# Altium footprint library Library v1.9.PcbLib: 90 footprints (part 1 of 6)
Each footprint in its own frame and in the unit in brackets; x right, y up, seen from the top. Pads: shape width x height; smd on the part's side, far side on the other; paste and mask are expansions set on the pad; w line width, h text height; cw(c..) or ccw(c..) is an arc to the next point about the centre after c.
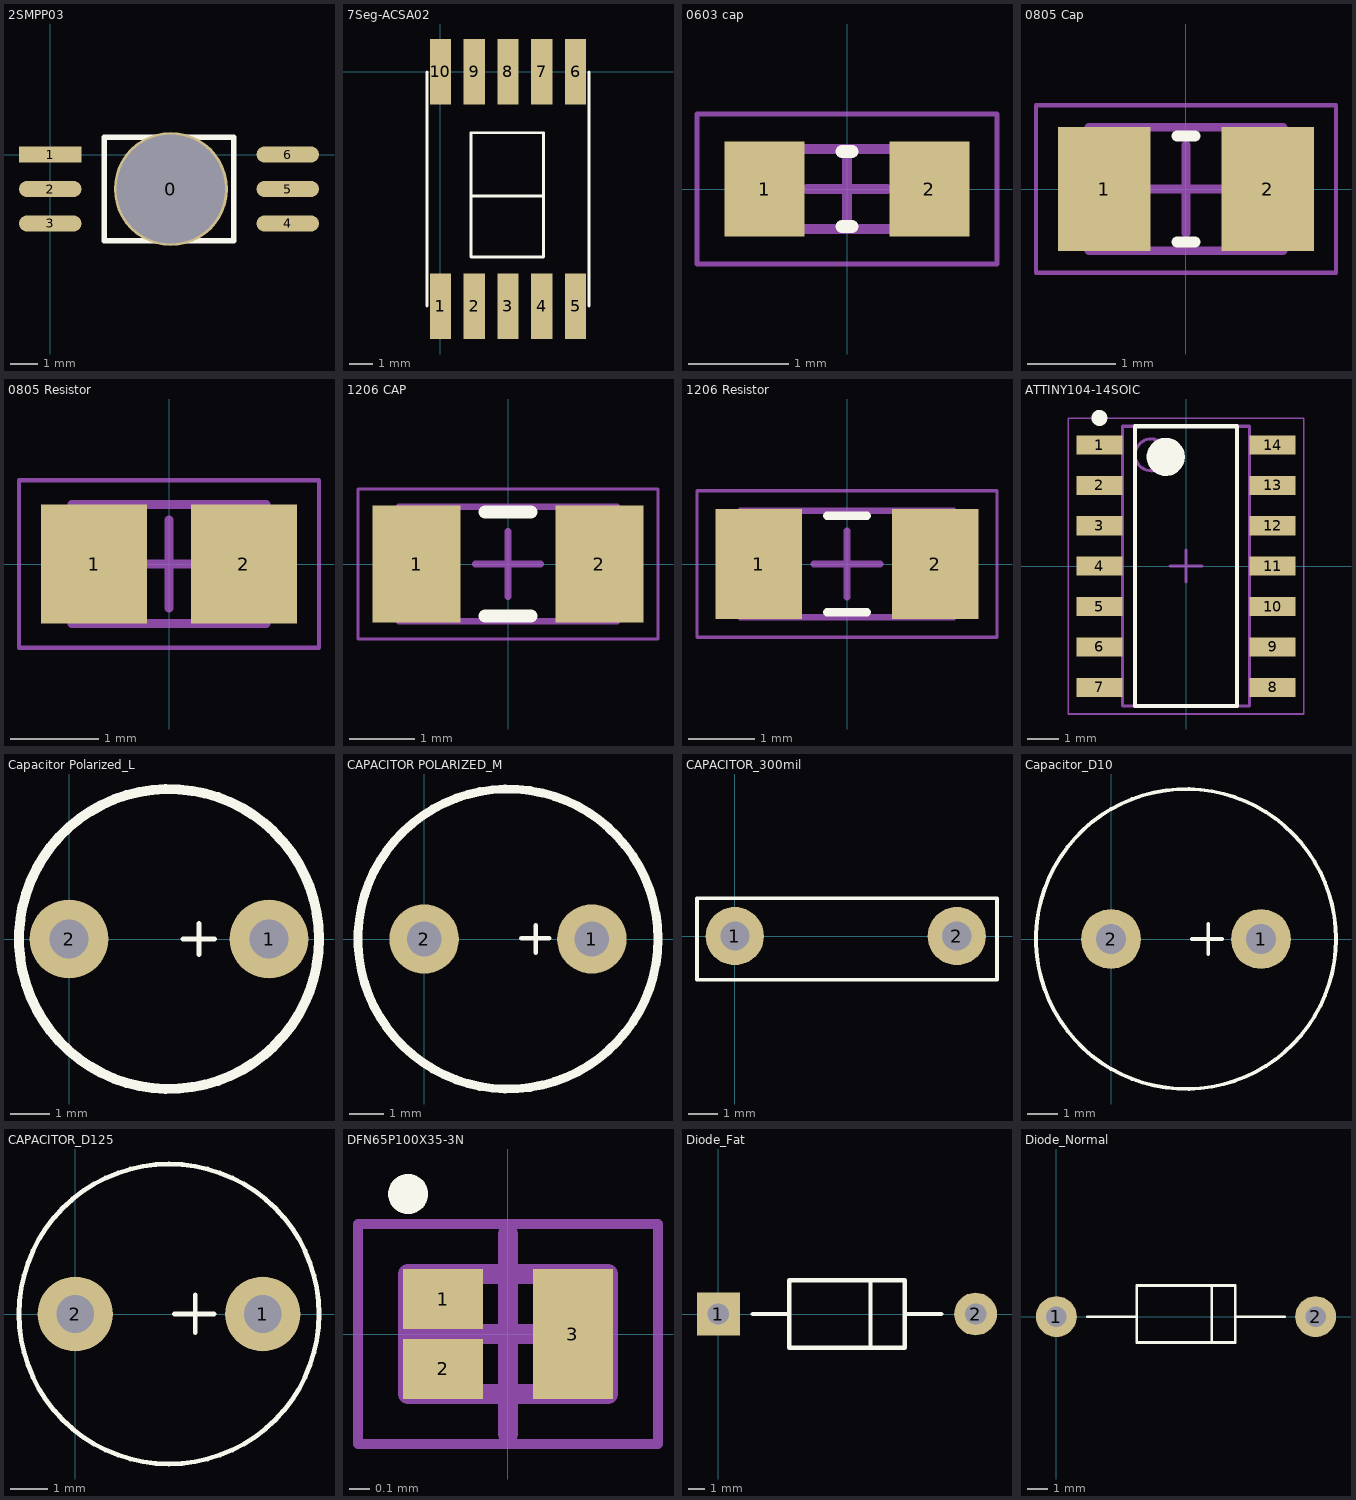
[diagram p0: the footprints below, top view; thin cyan lines are the x and y axes]

## 2SMPP03 [mm]
pads (7):
  round 4.2 hole 4: 0(4.445,-1.27)
  rect 2.3x0.6 smd: 1(0,0)
  oval 2.3x0.6 smd: 2(0,-1.27) 3(0,-2.54) 4(8.75,-2.54) 5(8.75,-1.27) 6(8.75,0)
Top Overlay:
  lines w0.2: 1.985,-3.175 6.765,-3.175 6.765,0.635 4.693,0.635 cw(c4.375,0.635) 4.058,0.635 1.985,0.635 1.985,-3.175

## 7Seg-ACSA02 [mm]
pads (10):
  rect 0.9x2.8 smd: 1(0,-10) 2(1.44,-10) 3(2.88,-10) 4(4.32,-10) 5(5.76,-10) 6(5.76,0) 7(4.32,0) 8(2.88,0) 9(1.44,0) 10(0,0)
Top Overlay:
  lines w0.127: -0.57,-10 -0.57,0 ; 1.3,-5.3 4.4,-5.3 ; 1.3,-5.25 1.3,-2.6 ; 6.33,-10 6.33,0 ; 1.3,-2.6 1.3,-7.9 4.4,-7.9 4.4,-2.6 1.3,-2.6
3D body "ACSX02-41.STEP": height 3, standoff -0.05, extent -0.554,-10.029 6.346,-0.029

## 0603 cap [mm]
height 0.5
pads (2):
  rect 0.8x0.95 smd: 1(-0.825,0) 2(0.825,0)
Top Overlay:
  lines w0.127: -0.05,-0.375 0.05,-0.375 ; -0.05,0.375 0.05,0.375
Mechanical 13:
  lines w0.1: -0.8,-0.4 0.8,-0.4 0.8,0.4 -0.8,0.4 -0.8,-0.4
Mechanical 15:
  lines w0.05: -1.5,-0.75 1.5,-0.75 1.5,0.75 -1.5,0.75 -1.5,-0.75
  lines w0.1: -0.4,0 0.4,0 ; 0,-0.4 0,0.4
3D body "0603 cap.step": height 0.5, standoff 0, extent -0.8,-0.4 0.8,0.4

## 0805 Cap [mm]
height 0.8
pads (2):
  rect 1.05x1.4 smd: 1(-0.925,0) 2(0.925,0)
Top Overlay:
  lines w0.127: -0.1,-0.6 0.1,-0.6 ; -0.1,0.6 0.1,0.6
Mechanical 13:
  lines w0.1: -1.1,-0.7 1.1,-0.7 1.1,0.7 -1.1,0.7 -1.1,-0.7
Mechanical 15:
  lines w0.05: -1.7,-0.95 1.7,-0.95 1.7,0.95 -1.7,0.95 -1.7,-0.95
  lines w0.1: -0.5,0 0.5,0 ; 0,-0.5 0,0.5
3D body "0805 Cap.step": height 0.8, standoff 0, extent -1.1,-0.7 1.1,0.7

## 0805 Resistor [mm] "Chip Resistor, 2-Leads, Body 2.00x1.25mm, IPC Medium Density"
height 0.6
pads (2):
  rect 1.2x1.35 smd: 1(-0.85,0) 2(0.85,0)
Mechanical 13:
  lines w0.1: -1.1,-0.675 1.1,-0.675 1.1,0.675 -1.1,0.675 -1.1,-0.675
Mechanical 15:
  lines w0.05: -1.7,-0.95 1.7,-0.95 1.7,0.95 -1.7,0.95 -1.7,-0.95
  lines w0.1: -0.5,0 0.5,0 ; 0,-0.5 0,0.5
3D body: height 0.6, standoff 0, extent 0.7,-0.675 1.1,0.675
3D body: height 0.6, standoff 0, extent -1.1,-0.675 -0.7,0.675
3D body: height 0.6, standoff 0, extent -0.7,-0.675 0.7,0.675

## 1206 CAP [mm]
height 0.9
pads (2):
  rect 1.35x1.8 smd: 1(-1.4,0) 2(1.4,0)
Top Overlay:
  lines w0.2: -0.35,-0.8 0.35,-0.8 ; -0.35,0.8 0.35,0.8
Mechanical 13:
  lines w0.1: -1.675,-0.875 1.675,-0.875 1.675,0.875 -1.675,0.875 -1.675,-0.875
Mechanical 15:
  lines w0.05: -2.3,-1.15 2.3,-1.15 2.3,1.15 -2.3,1.15 -2.3,-1.15
  lines w0.1: -0.5,0 0.5,0 ; 0,-0.5 0,0.5
3D body "1206 CAP.step": height 0.9, standoff 0, extent -1.675,-0.875 1.675,0.875

## 1206 Resistor [mm]
height 0.5
pads (2):
  rect 1.3x1.65 smd: 1(-1.325,0) 2(1.325,0)
Top Overlay:
  lines w0.127: -0.3,-0.725 0.3,-0.725 ; -0.3,0.725 0.3,0.725
Mechanical 13:
  lines w0.1: -1.6,-0.8 -1.6,0.8 1.6,0.8 1.6,-0.8 -1.6,-0.8
Mechanical 15:
  lines w0.05: -2.25,-1.1 -2.25,1.1 2.25,1.1 2.25,-1.1 -2.25,-1.1
  lines w0.1: -0.5,0 0.5,0 ; 0,-0.5 0,0.5
3D body: height 0.5, standoff 0, extent -0.7,-0.8 0.7,0.8
3D body: height 0.5, standoff 0, extent -1.6,-0.8 -0.7,0.8
3D body: height 0.5, standoff 0, extent 0.7,-0.8 1.6,0.8

## ATTINY104-14SOIC [mm]
height 1.75
pads (14):
  rect 1.45x0.6 smd: 1(-2.725,3.81) 2(-2.725,2.54) 3(-2.725,1.27) 4(-2.725,0) 5(-2.725,-1.27) 6(-2.725,-2.54) 7(-2.725,-3.81) 8(2.725,-3.81) 9(2.725,-2.54) 10(2.725,-1.27) 11(2.725,0) 12(2.725,1.27) 13(2.725,2.54) 14(2.725,3.81)
Top Overlay:
  circle w0.6: c-0.637,3.437 r0.3
  circle w0.25: c-2.725,4.66 r0.125
  lines w0.127: -1.6,-4.4 1.6,-4.4 1.6,4.4 -1.6,4.4 -1.6,-4.4
Mechanical 13:
  circle w0.1: c-1.1,3.5 r0.5
  lines w0.1: -2,-4.4 2,-4.4 2,4.4 -2,4.4 -2,-4.4
Mechanical 15:
  lines w0.05: -3.7,-4.65 3.7,-4.65 3.7,4.65 -3.7,4.65 -3.7,-4.65
  lines w0.1: -0.5,0 0.5,0 ; 0,-0.5 0,0.5
3D body "ATTINY104-14SOIC.step": height 1.75, standoff 0, extent -3,-4.4 3,4.4

## Capacitor Polarized_L [mm]
pads (2):
  round 2 hole 1: 1(5.08,0) 2(0,0)
Top Overlay:
  circle w0.254: c2.54,0 r3.81
  lines w0.127: 2.9,0 3.7,0 ; 3.3,-0.4 3.3,0.4
3D body: height 10, standoff 0, extent -1.31,-3.81 6.31,3.81

## CAPACITOR POLARIZED_M [mm]
pads (2):
  round 2 hole 1: 1(4.826,0) 2(0,0)
Top Overlay:
  circle w0.254: c2.413,0 r4.318
  lines w0.127: 2.8,0.025 3.6,0.025 ; 3.215,-0.4 3.215,0.4
3D body: height 10, standoff 0, extent -1.818,-4.315 6.818,4.315

## CAPACITOR_300mil [mm]
pads (2):
  round 2 hole 1: 1(0,0) 2(7.62,0)
Top Overlay:
  lines w0.127: -1.3,-1.5 9,-1.5 9,1.3 6.425,1.3 4.638,1.3 2.862,1.3 1.675,1.3 -1.3,1.3 -1.3,-1.5

## Capacitor_D10 [mm]
pads (2):
  round 2 hole 1: 1(5,0) 2(0,0)
Top Overlay:
  circle w0.127: c2.5,0 r5
  lines w0.127: 2.692,0 3.708,0 ; 3.242,-0.508 3.242,0.508

## CAPACITOR_D125 [mm]
pads (2):
  round 2 hole 1: 1(5,0) 2(0,0)
Top Overlay:
  circle w0.127: c2.5,0 r4
  lines w0.127: 2.642,0 3.7,0 ; 3.2,-0.5 3.2,0.516

## DFN65P100X35-3N [mm] "DFN, 3-Leads, Body 0.60x1.00mm, Pitch 0.65mm, IPC Medium Density"
height 0.35
pads (3):
  rect 0.4x0.3 smd: 1(-0.325,0.175) 2(-0.325,-0.175)
  rect 0.4x0.65 smd: 3(0.325,0)
Top Overlay:
  circle w0.1: c-0.5,0.7 r0.05
Mechanical 13:
  lines w0.1: -0.5,-0.3 -0.5,0.3 0.5,0.3 0.5,-0.3 -0.5,-0.3
Mechanical 15:
  lines w0.05: -0.75,-0.55 -0.75,0.55 0.75,0.55 0.75,-0.55 -0.75,-0.55
  lines w0.1: -0.5,0 0.5,0 ; 0,-0.5 0,0.5
3D body "DFN65P100X35-3N.step": height 0.35, standoff 0, extent -0.5,-0.3 0.5,0.3

## Diode_Fat [mm]
pads (2):
  rect 2.54x2.54 hole 1.27: 1(0,0)
  round 2.54 hole 1.27: 2(15.24,0)
Top Overlay:
  lines w0.254: 2.032,0 4.191,0 ; 9.017,-2 9.017,2 ; 11.049,0 13.208,0 ; 4.191,0 4.191,-2 11.049,-2 11.049,2 4.191,2 4.191,0

## Diode_Normal [mm]
pads (2):
  round 2 hole 1: 1(0,0) 2(12.7,0)
Top Overlay:
  lines w0.127: 1.524,0 3.937,0 ; 7.62,-1.27 7.62,-1.016 7.62,1.524 ; 8.763,0 11.176,0 ; 3.937,0 3.937,1.524 8.763,1.524 8.763,-1.27 3.937,-1.27 3.937,0